# Altium footprint library Relay.PcbLib: 2 footprints
Each footprint in its own frame and in the unit in brackets; x right, y up, seen from the top. Pads: shape width x height; smd on the part's side, far side on the other; paste and mask are expansions set on the pad; w line width, h text height; cw(c..) or ccw(c..) is an arc to the next point about the centre after c.
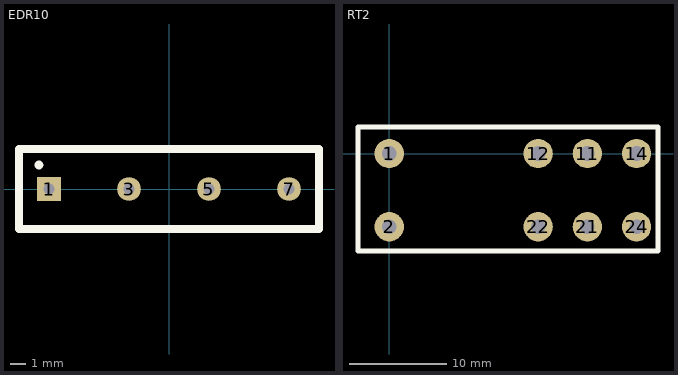
[diagram p0: the footprints below, top view; thin cyan lines are the x and y axes]

## EDR10 [mm]
height 7.5
pads (4):
  rect 1.5x1.5 hole 0.7: 1(-7.62,0)
  round 1.5 hole 0.7: 3(-2.54,0) 5(2.54,0) 7(7.62,0)
Top Overlay:
  circle w0.3: c-8.255,1.524 r0.127
  lines w0.5: -9.525,-2.54 -9.525,2.54 9.525,2.54 9.525,-2.54 -9.525,-2.54
3D body "EDR10.STEP": height 7.5, standoff -3.4, extent -9.5,-2.502 9.5,2.503

## RT2 [mm]
height 16
pads (8):
  round 3 hole 1.5: 1(0,0) 2(0,-7.5) 11(20.3,0) 12(15.26,0) 14(25.34,0) 21(20.3,-7.5) 22(15.26,-7.5) 24(25.34,-7.5)
Top Overlay:
  lines w0.5: -3.2,-9.982 -3.2,2.718 27.534,2.718 27.534,-9.982 -3.2,-9.982
3D body "RT2.stp": height 25, standoff -5, extent -2.946,-9.934 26.054,2.466